# Altium footprint library poe.PcbLib: 26 footprints (part 2 of 2)
Each footprint in its own frame and in the unit in brackets; x right, y up, seen from the top. Pads: shape width x height; smd on the part's side, far side on the other; paste and mask are expansions set on the pad; w line width, h text height; cw(c..) or ccw(c..) is an arc to the next point about the centre after c.
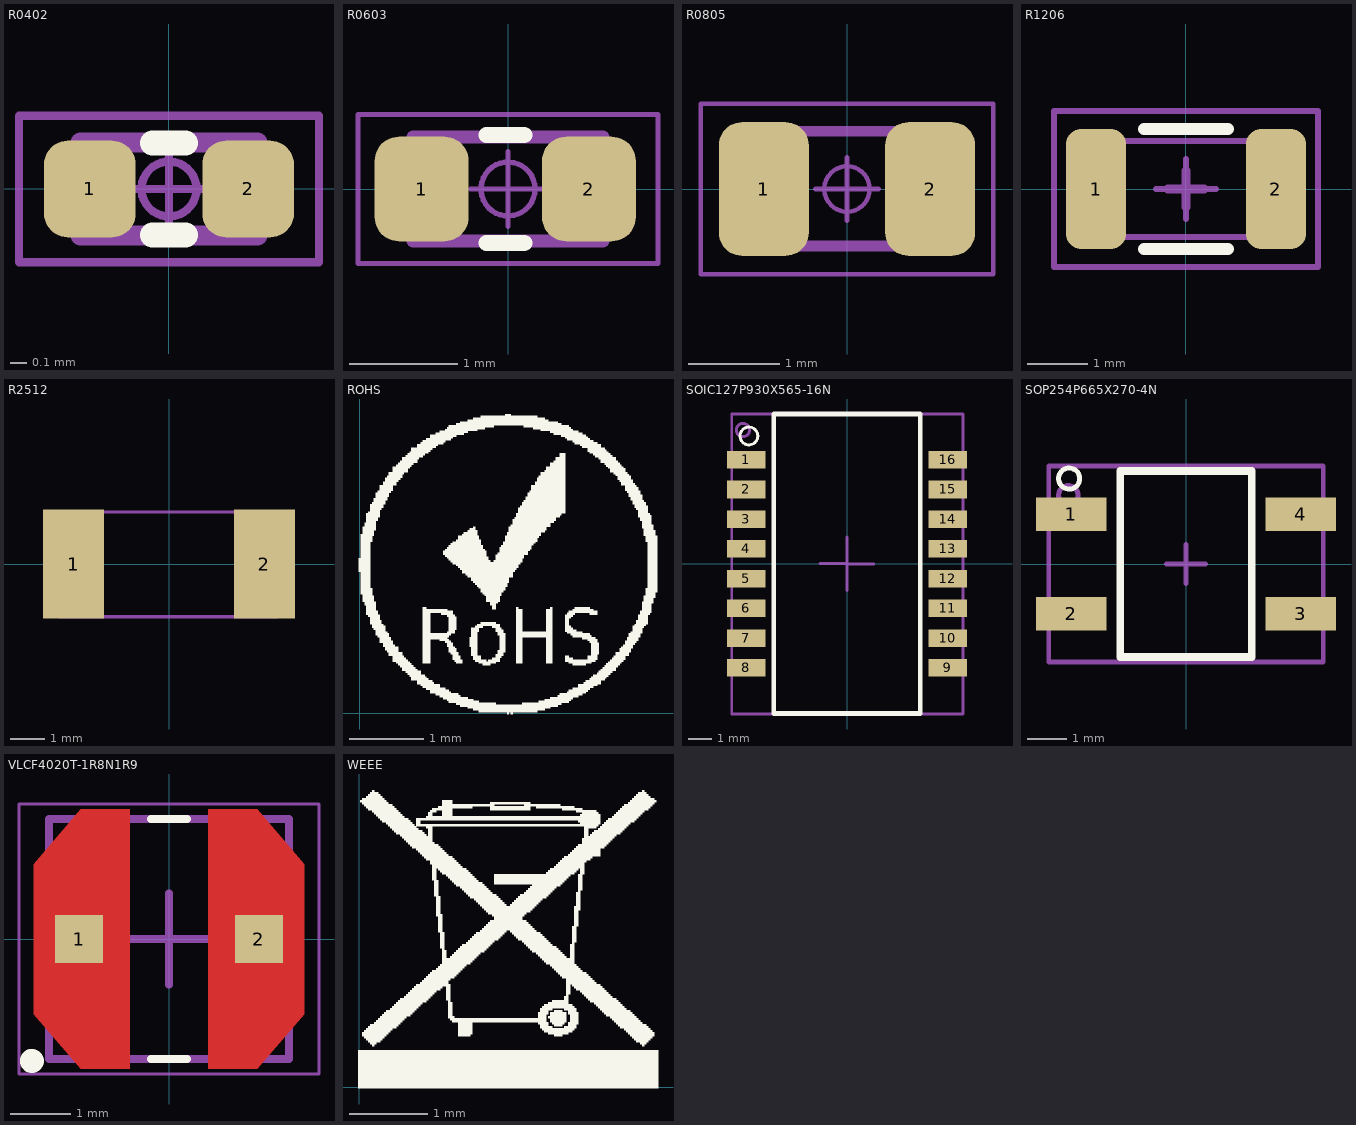
[diagram p1: the footprints below, top view; thin cyan lines are the x and y axes]

## R0402 [mm] "Chip Resistor, 2-Leads, Body  0402 (in) 1005 (mm), IPC Medium Density"
height 0.5
pads (2):
  rrect51% 0.55x0.58 smd mask+0.05: 1(-0.475,0) 2(0.475,0)
Top Overlay:
  lines w0.15: -0.1,-0.275 0.1,-0.275 ; -0.1,0.275 0.1,0.275
Mechanical 13:
  lines w0.12: -0.53,-0.28 -0.53,0.28 0.53,0.28 0.53,-0.28 -0.53,-0.28
  text ".designator" at -0.432,-0.152 h0.3
Mechanical 15:
  circle w0.05: c0,0 r0.165
  lines w0.05: -0.22,0 0.22,0 ; 0,-0.22 0,0.22 ; -0.9,-0.44 -0.9,0.44 0.9,0.44 0.9,-0.44 -0.9,-0.44
3D body "RES-0402.stp": height 0.34, standoff 0, extent -0.5,-0.25 0.5,0.25

## R0603 [mm]
height 1.3
pads (2):
  rrect51% 0.87x0.97 smd mask+0.05: 1(-0.8,0) 2(0.75,0)
Top Overlay:
  lines w0.15: -0.2,-0.5 0.15,-0.5 ; -0.2,0.5 0.15,0.5
Mechanical 13:
  lines w0.12: -0.88,-0.48 0.88,-0.48 0.88,0.48 -0.88,0.48 -0.88,-0.48
  text ".designator" at -0.762,-0.305 h0.3
Mechanical 15:
  circle w0.05: c0,0 r0.25
  lines w0.05: -0.345,0 0.345,0 ; 0,-0.345 0,0.345 ; -1.39,-0.69 -1.39,0.69 1.39,0.69 1.39,-0.69 -1.39,-0.69
3D body "R0603.step": height 0.45, standoff 0, extent -0.8,-0.4 0.8,0.4

## R0805 [mm] "Chip Resistor - Body 0805 imperial, 2.0x1.2mm, IPC Medium Density"
height 0.7
pads (2):
  rrect51% 0.99x1.47 smd: 1(-0.915,0) 2(0.915,0)
Mechanical 13:
  lines w0.12: -1.016,-0.625 1,-0.625 1,0.635 -1.016,0.635 -1.016,-0.625
  text ".designator" at -0.813,-0.381 h0.3
Mechanical 15:
  circle w0.05: c0,0 r0.25
  lines w0.05: -0.35,0 0.35,0 ; 0,-0.35 0,0.35 ; -1.61,-0.94 1.61,-0.94 1.61,0.94 -1.61,0.94 -1.61,-0.94
3D body "RES-0805.stp": height 0.58, standoff 0, extent -1,-0.625 1,0.625

## R1206 [mm] "IPC 7351 1206"
height 0.6
pads (2):
  rrect50% 1x2 smd: 1(-1.5,0) 2(1.5,0)
Top Overlay:
  lines w0.2: -0.7,-1 0.7,-1 ; -0.7,1 0.7,1
Mechanical 13:
  lines w0.1: -1.6,-0.8 1.575,-0.8 1.575,0.8 -1.6,0.8 -1.6,-0.8
  lines w0.15: -0.3,0 0,0 ; 0,-0.3 0,0 ; 0,0.3 0,0 ; 0.3,0 0,0 ; 0,0 0,0
  text ".designator" at -1.5,-0.7 h0.38
Mechanical 15:
  lines w0.1: -0.5,0 0.5,0 ; 0,-0.5 0,0.5 ; -2.2,-1.3 2.2,-1.3 2.2,1.3 -2.2,1.3 -2.2,-1.3
3D body "R1206.step": height 0.55, standoff 0, extent -1.55,-0.8 1.55,0.8

## R2512 [mil] "R2512"
pads (2):
  rect 70.87x125.98 smd: 1(-110.24,0) 2(110.24,0)
Mechanical 13:
  lines w3.94: -126,-61 -126,60.04 125,60.04 125,-61 -126,-61
  text ".designator" at -112,-32 h39.37
3D body "SMS-R2512.STEP": height 59.56, standoff 0.5, extent -125,-60.04 125,60.04

## ROHS [mil] "ROHS"
Top Overlay:
  drawing of 599 lines, arcs and shapes, not listed

## SOIC127P930X565-16N [mm] "SOIC127P930X565-16N"
pads (16):
  rect 1.65x0.75 smd: 1(-4.3,4.445) 2(-4.3,3.175) 3(-4.3,1.905) 4(-4.3,0.635) 5(-4.3,-0.635) 6(-4.3,-1.905) 7(-4.3,-3.175) 8(-4.3,-4.445) 9(4.3,-4.445) 10(4.3,-3.175) 11(4.3,-1.905) 12(4.3,-0.635) 13(4.3,0.635) 14(4.3,1.905) 15(4.3,3.175) 16(4.3,4.445)
Top Overlay:
  circle w0.127: c-4.191,5.461 r0.381
  lines w0.2: -3.125,-6.4 -3.125,6.4 3.125,6.4 3.125,-6.4 -3.125,-6.4
Mechanical 13:
  circle w0.127: c-4.445,5.715 r0.284
  lines w0.127: -1.147,0.01 -0.004,0.01 ; 0,-1.143 0,0 ; 0,1.143 0,0 ; 1.143,0 0,0 ; -4.924,-6.418 4.953,-6.418 4.953,6.398 -4.924,6.398 -4.924,-6.418
  text ".designator" at -2.413,-5.757 h0.64
3D body "SOIC_PT61018PEL.step": height 5.64, standoff 0, extent -4.908,-6.401 4.908,6.401

## SOP254P665X270-4N [mil] "SOP254P665X270-4N"
pads (4):
  rect 70.87x33.46 smd: 1(-115.16,50) 2(-115.16,-50) 3(115.16,-50) 4(115.16,50)
Top Overlay:
  circle w5: c-117.28,85.78 r10.59
  lines w7.87: -65.94,-93.5 65.94,-93.5 65.94,93.5 -65.94,93.5 -65.94,-93.5
Mechanical 13:
  circle w5: c-118.11,68.9 r9.84
  lines w5: -19.68,0 19.68,0 ; 0,-19.68 0,19.68 ; -137.8,-98.43 137.8,-98.43 137.8,98.43 -137.8,98.43 -137.8,-98.43
  text ".designator" at -108.27,-90.56 h25
3D body "TO-269AA.step": height 123.73, standoff 0.5, extent -135.82,-97.44 135.83,97.44

## VLCF4020T-1R8N1R9 [mm]
height 2
pads (2):
  rect 0.8x0.8 smd paste-1 mask+0: 1(-1.5,0) 2(1.5,0)
Top Layer:
  region: -1.471,2.159 -0.65,2.159 -0.65,-2.159 -1.471,-2.159 -2.25,-1.25 -2.25,1.25
  region: 1.471,2.159 2.25,1.25 2.25,-1.25 1.471,-2.159 0.65,-2.159 0.65,2.159
Top Overlay:
  circle w0.2: c-2.286,-2.032 r0.1
  lines w0.127: -0.3,-2 0.3,-2 ; -0.3,2 0.3,2
Top Paste:
  region: -1.471,2.159 -0.65,2.159 -0.65,-2.159 -1.471,-2.159 -2.25,-1.25 -2.25,1.25
  region: 1.471,2.159 2.25,1.25 2.25,-1.25 1.471,-2.159 0.65,-2.159 0.65,2.159
Top Solder:
  region: -1.495,2.286 -0.55,2.286 -0.55,-2.286 -1.495,-2.286 -2.35,-1.3 -2.35,1.3
  region: 1.495,2.286 2.35,1.3 2.35,-1.3 1.495,-2.286 0.55,-2.286 0.55,2.286
Mechanical 13:
  circle w0.2: c-1.651,0 r0.1
  lines w0.127: -0.762,0 0,0 ; 0,-0.762 0,0 ; 0,0.762 0,0 ; 0.762,0 0,0 ; -2,-2 2,-2 2,2 -2,2 -2,-2
  text ".designator" at -1.8,-2.15 h0.64
Mechanical 15:
  lines w0.05: -2.5,-2.25 2.5,-2.25 2.5,2.25 -2.5,2.25 -2.5,-2.25
3D body "VLCF4020T-1R8N1R9--3DModel-STEP-56544.STEP": height 2.01, standoff 0.01, extent -2,-2 2,2

## WEEE [mil] "WEEE"
Top Overlay:
  drawing of 457 lines, arcs and shapes, not listed